# Altium schematic symbol library Stamp.SchLib: 1 symbol
Pins are listed as number, name and electrical type; pins without a type are passive.

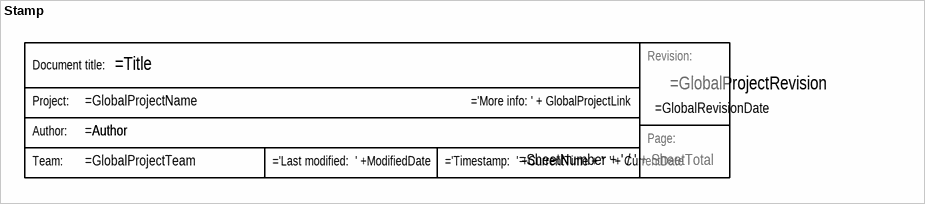
[diagram p0: symbol Stamp]

## Stamp
designator Stamp  (value not drawn)  (graphical)
text: Revision:; Document title:; Project:; Author:; Page:; Team: